# Altium footprint library 0.1uF 275VAC cap.PcbLib: 1 footprints
Each footprint in its own frame and in the unit in brackets; x right, y up, seen from the top. Pads: shape width x height; smd on the part's side, far side on the other; paste and mask are expansions set on the pad; w line width, h text height; cw(c..) or ccw(c..) is an arc to the next point about the centre after c.
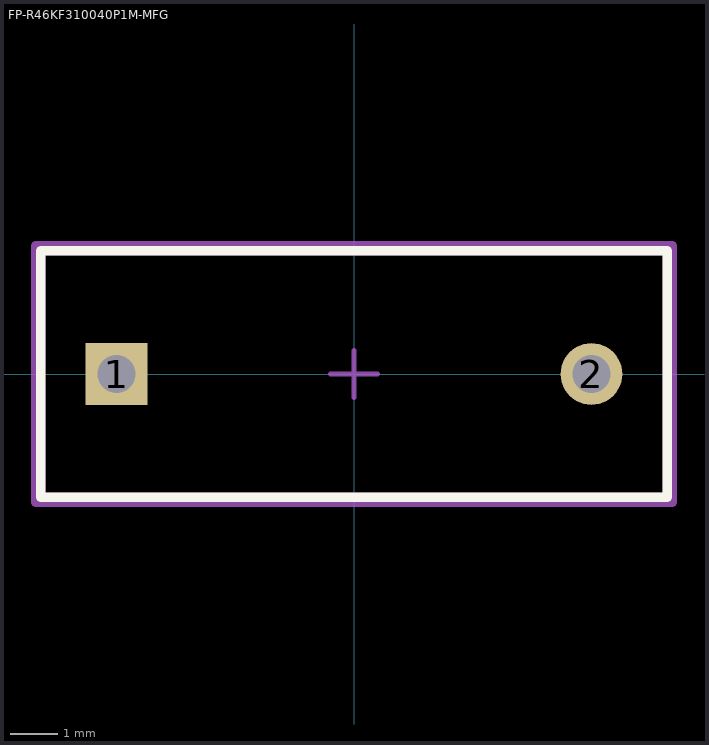
[diagram p0: the footprint, top view; thin cyan lines are the x and y axes]

## FP-R46KF310040P1M-MFG [mm]
pads (2):
  rect 1.3x1.3 hole 0.8 paste-2539.97 mask+0: 1(-5,0)
  round 1.3 hole 0.8 paste-2539.97 mask+0: 2(5,0)
Top Overlay:
  lines w0.2: -6.6,-2.6 -6.6,2.6 6.6,2.6 6.6,-2.6 -6.6,-2.6
Top Assembly:
  lines w0.2: -6.7,-2.7 -6.7,2.7 6.7,2.7 6.7,-2.7 -6.7,-2.7
  text ".Designator" at 0,-0.001 h1
Top 3D Body:
  lines w0.2: -6.6,-2.6 -6.6,2.6 6.6,2.6 6.6,-2.6 -6.6,-2.6
Top Courtyard:
  lines w0.2: -6.7,-2.7 -6.7,2.7 6.7,2.7 6.7,-2.7 -6.7,-2.7
Top Component Center:
  lines w0.1: -0.5,0 0.5,0 ; 0,-0.5 0,0.5
3D body "Cap_KEMET_R46KF310040P1M_eec.STEP": height 0.25, standoff 0, extent -6.7,-2.7 6.7,2.7